# Altium footprint library PCB - CONNECTOR - AMPHENOL M8S-04PFFR-SF8001.PcbLib: 1 footprints
Each footprint in its own frame and in the unit in brackets; x right, y up, seen from the top. Pads: shape width x height; smd on the part's side, far side on the other; paste and mask are expansions set on the pad; w line width, h text height; cw(c..) or ccw(c..) is an arc to the next point about the centre after c.
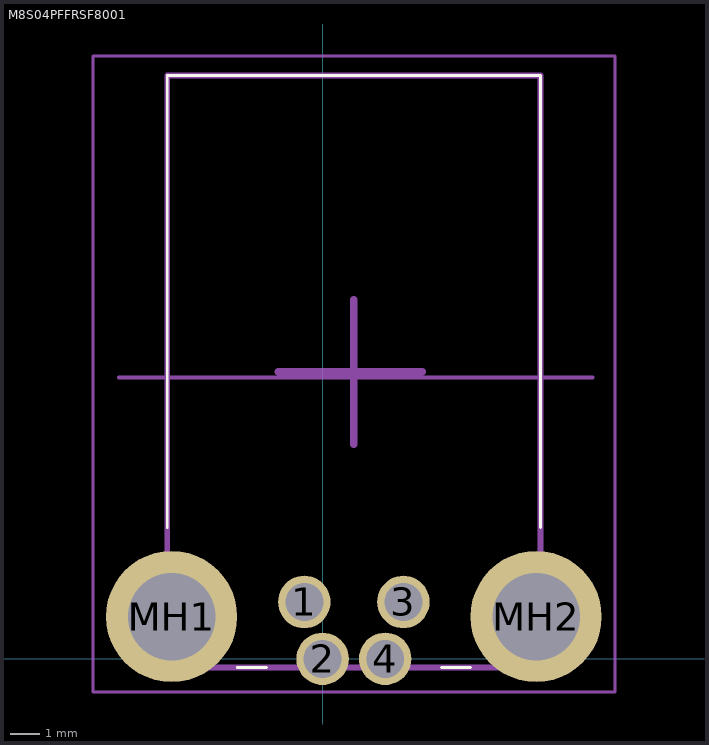
[diagram p0: the footprint, top view; thin cyan lines are the x and y axes]

## M8S04PFFRSF8001 [mm]
pads (6):
  round 1.8 hole 1.3: 1(-0.625,1.95) 2(0,0) 3(2.775,1.95) 4(2.15,0)
  round 4.5 hole 3: MH1(-5.175,1.45) MH2(7.325,1.45)
Top Overlay:
  lines w0.1: -5.325,4.5 -5.325,20 7.475,20 7.475,4.5 ; -2.925,-0.3 -1.925,-0.3 ; 4.075,-0.3 5.075,-0.3
Top Assembly:
  lines w0.127: -6.985,9.649 9.271,9.648
  lines w0.2: -5.325,-0.3 7.475,-0.3 7.475,20 -5.325,20 -5.325,-0.3
  text "Connector Edge" at -4.572,10.287 h0.81
Top Courtyard:
  lines w0.1: -7.874,-1.143 10.033,-1.143 10.033,20.68 -7.874,20.68 -7.874,-1.143
Top Designator:
  text ".Designator" at -3.306,3.986 h2.03
Top Component Center:
  lines w0.254: -1.524,9.85 3.429,9.85 ; 1.07,7.366 1.07,12.319
3D body "M8S-04PFFR-SF8001.stp": height 12.69, standoff -3.36, extent -5.33,-0.43 7.47,19.72